# Altium schematic symbol library IRLML6402.Schlib: 1 symbol
Pins are listed as number, name and electrical type; pins without a type are passive.

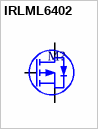
[diagram p0: symbol IRLML6402]

## IRLML6402
designator M?
20V 3.7A P-Channel
pins: 1 G, 2 S, 3 D